# Altium schematic symbol library 3557-2.SchLib: 1 symbol
Pins are listed as number, name and electrical type; pins without a type are passive.

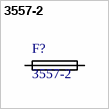
[diagram p0: symbol 3557-2]

## 3557-2
designator F?
/ Clip; Auto Clips & Holders; 2-1 Holder For Standard & Low Profile Mini Fuses /; MF: Keystone; Package: None; Price: None; MP: 3557-2; SnapEDA_Link: https://www.snapeda.com/parts/3557-2/Keystone%20Electronics/view-part/?ref=snap; Availability: Unavailable; Value: *
footprint *FUSE_3557-2
pins: 1 1A, 2 1B, 3 2A, 4 2B